# EAGLE library part DMC_1,5/3- (library isystems-phoenixcontact)
MINI COMBICON-Steckverbinder im Raster 3,5mm Zweireihige Grundgehäuse für Reflow-Prozesse Mit Lock & Release-Verriegelung und Gewindeflansch, Steckrichtung parallel zur Leiterplatte
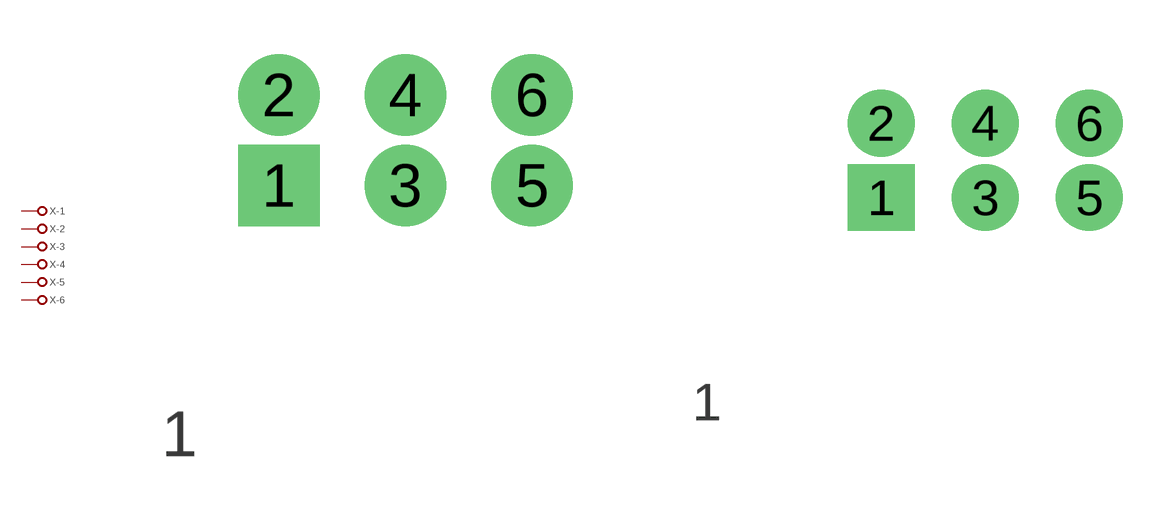
[diagram p0: symbol with the pads of DMC_1,5/3-G1-3,5_P20THR; footprints DMC_1,5/3-G1-3,5_P20THR, DMC_1,5/3-G1F-3,5-LR_P20THR]

Designator prefix X; gates -1=CONX1 -2=CONX1 -3=CONX1 -4=CONX1 -5=CONX1 -6=CONX1

## DMC_1,5/3-G1-3,5_P20THR  [DMC_1,5/3-G1-3,5_P20THR]
1  -1:P
2  -2:P
3  -3:P
4  -4:P
5  -5:P
6  -6:P

## DMC_1,5/3-G1F-3,5-LR_P20THR  [DMC_1,5/3-G1F-3,5-LR_P20THR]
Pads as for DMC_1,5/3-G1-3,5_P20THR

## Footprint DMC_1,5/3-G1-3,5_P20THR (pad centres in mm)
drill 1.5 pad 2.2 square: 1 -3.5,0
drill 1.5 pad 2.2: 2 -3.5,2.5; 3 0,0; 4 0,2.5; 5 3.5,0; 6 3.5,2.5

## Footprint DMC_1,5/3-G1F-3,5-LR_P20THR (pad centres in mm)
drill 1.5 pad 2.2 square: 1 -3.5,0
drill 1.5 pad 2.2: 2 -3.5,2.5; 3 0,0; 4 0,2.5; 5 3.5,0; 6 3.5,2.5